# Altium footprint library ICs-V.PcbLib: 7 footprints
Each footprint in its own frame and in the unit in brackets; x right, y up, seen from the top. Pads: shape width x height; smd on the part's side, far side on the other; paste and mask are expansions set on the pad; w line width, h text height; cw(c..) or ccw(c..) is an arc to the next point about the centre after c.
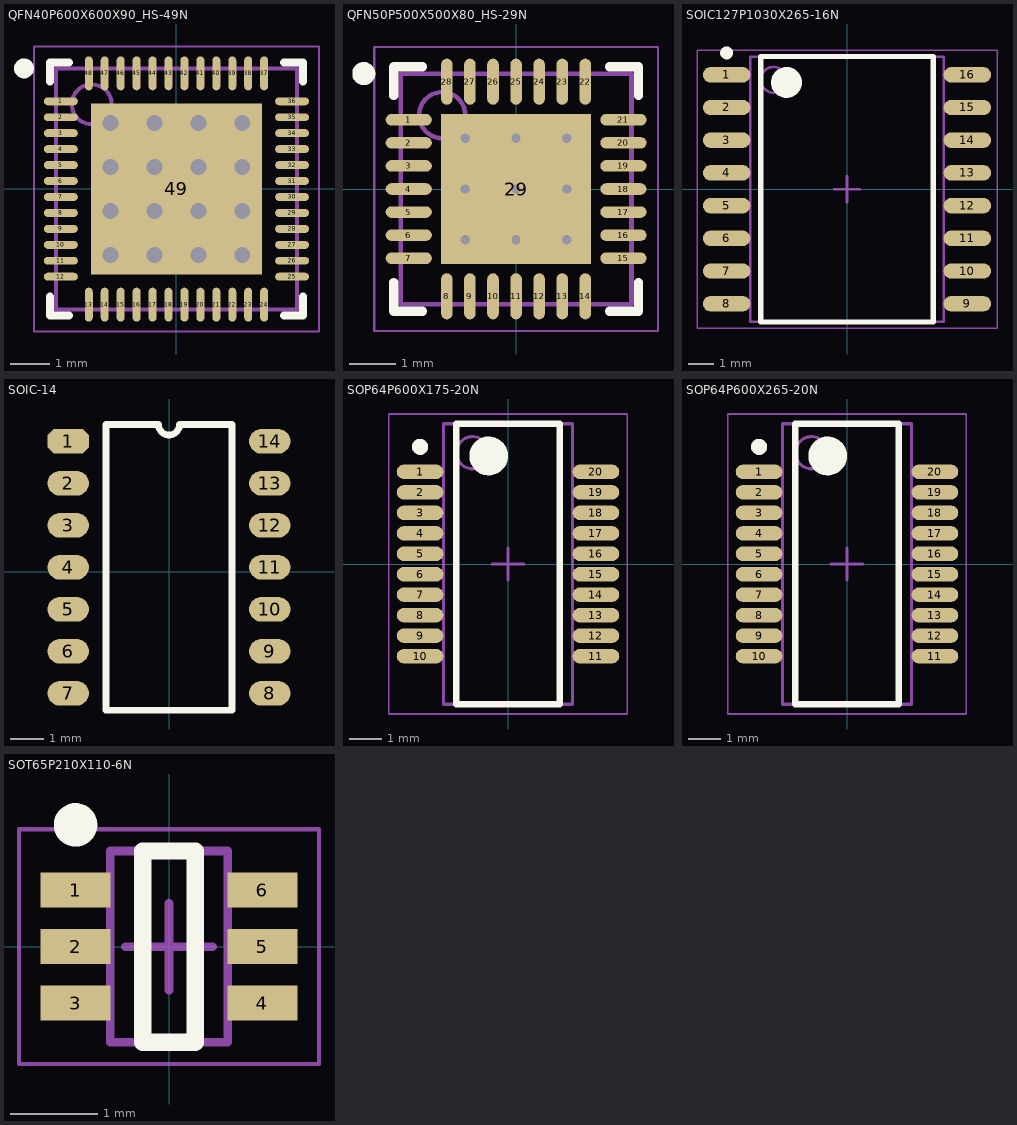
[diagram p0: the footprints below, top view; thin cyan lines are the x and y axes]

## QFN40P600X600X90_HS-49N [mm] "QFN, 48-Leads, Body 6.00x6.00mm, Pitch 0.40mm, Thermal Pad 4.30x4.30mm, IPC Medium Density"
height 0.9
pads (49):
  oval 0.85x0.2 smd: 1(-2.9,2.2) 2(-2.9,1.8) 3(-2.9,1.4) 4(-2.9,1) 5(-2.9,0.6) 6(-2.9,0.2) 7(-2.9,-0.2) 8(-2.9,-0.6) 9(-2.9,-1) 10(-2.9,-1.4) 11(-2.9,-1.8) 12(-2.9,-2.2) 25(2.9,-2.2) 26(2.9,-1.8) 27(2.9,-1.4) 28(2.9,-1) 29(2.9,-0.6) 30(2.9,-0.2) 31(2.9,0.2) 32(2.9,0.6) 33(2.9,1) 34(2.9,1.4) 35(2.9,1.8) 36(2.9,2.2)
  oval 0.2x0.85 smd: 13(-2.2,-2.9) 14(-1.8,-2.9) 15(-1.4,-2.9) 16(-1,-2.9) 17(-0.6,-2.9) 18(-0.2,-2.9) 19(0.2,-2.9) 20(0.6,-2.9) 21(1,-2.9) 22(1.4,-2.9) 23(1.8,-2.9) 24(2.2,-2.9) 37(2.2,2.9) 38(1.8,2.9) 39(1.4,2.9) 40(1,2.9) 41(0.6,2.9) 42(0.2,2.9) 43(-0.2,2.9) 44(-0.6,2.9) 45(-1,2.9) 46(-1.4,2.9) 47(-1.8,2.9) 48(-2.2,2.9)
  rect 4.3x4.3 smd: 49(0,0)
via -1.65,0.55 diameter 0.7 hole 0.4
via -1.65,1.65 diameter 0.7 hole 0.4
via -0.55,1.65 diameter 0.7 hole 0.4
via 0.55,1.65 diameter 0.7 hole 0.4
via 1.65,1.65 diameter 0.7 hole 0.4
via -0.55,0.55 diameter 0.7 hole 0.4
via 0.55,0.55 diameter 0.7 hole 0.4
via 1.65,0.55 diameter 0.7 hole 0.4
via -1.65,-0.55 diameter 0.7 hole 0.4
via -0.55,-0.55 diameter 0.7 hole 0.4
via 0.55,-0.55 diameter 0.7 hole 0.4
via 1.65,-0.55 diameter 0.7 hole 0.4
via -1.65,-1.65 diameter 0.7 hole 0.4
via -0.55,-1.65 diameter 0.7 hole 0.4
via 0.55,-1.65 diameter 0.7 hole 0.4
via 1.65,-1.65 diameter 0.7 hole 0.4
Top Overlay:
  circle w0.25: c-3.825,3.025 r0.125
  lines w0.2: -3.175,-2.7 -3.175,-3.175 -2.7,-3.175 ; -3.175,2.7 -3.175,3.175 -2.7,3.175 ; 2.7,-3.175 3.175,-3.175 3.175,-2.7 ; 2.7,3.175 3.175,3.175 3.175,2.7
Mechanical 13:
  circle w0.1: c-2.125,2.125 r0.5
  lines w0.1: -3.025,-3.025 -3.025,3.025 3.025,3.025 3.025,-3.025 -3.025,-3.025
Mechanical 15:
  lines w0.05: -3.575,-3.575 -3.575,3.575 3.575,3.575 3.575,-3.575 -3.575,-3.575
  lines w0.1: -0.5,0 0.5,0 ; 0,-0.5 0,0.5
3D body "QFN40P600X600X90_HS-49N.step": height 0.9, standoff 0, extent -3.026,-3.026 3.026,3.026

## QFN50P500X500X80_HS-29N [mm] "QFN, 28-Leads, Body 5.00x5.00mm, Pitch 0.50mm, Thermal Pad 3.25x3.25mm, IPC Medium Density"
height 0.8
pads (29):
  oval 1x0.25 smd: 1(-2.325,1.5) 2(-2.325,1) 3(-2.325,0.5) 4(-2.325,0) 5(-2.325,-0.5) 6(-2.325,-1) 7(-2.325,-1.5) 15(2.325,-1.5) 16(2.325,-1) 17(2.325,-0.5) 18(2.325,0) 19(2.325,0.5) 20(2.325,1) 21(2.325,1.5)
  oval 0.25x1 smd: 8(-1.5,-2.325) 9(-1,-2.325) 10(-0.5,-2.325) 11(0,-2.325) 12(0.5,-2.325) 13(1,-2.325) 14(1.5,-2.325) 22(1.5,2.325) 23(1,2.325) 24(0.5,2.325) 25(0,2.325) 26(-0.5,2.325) 27(-1,2.325) 28(-1.5,2.325)
  rect 3.25x3.25 smd: 29(0,0)
via 1.1,-1.1 diameter 0.5 hole 0.2
via 0,-1.1 diameter 0.5 hole 0.2
via -1.1,-1.1 diameter 0.5 hole 0.2
via 1.1,0 diameter 0.5 hole 0.2
via 0,0 diameter 0.5 hole 0.2
via -1.1,0 diameter 0.5 hole 0.2
via 1.1,1.1 diameter 0.5 hole 0.2
via 0,1.1 diameter 0.5 hole 0.2
via -1.1,1.1 diameter 0.5 hole 0.2
Top Overlay:
  circle w0.25: c-3.3,2.5 r0.125
  lines w0.2: -2.65,-2.025 -2.65,-2.65 -2.025,-2.65 ; -2.65,2.025 -2.65,2.65 -2.025,2.65 ; 2.025,-2.65 2.65,-2.65 2.65,-2.025 ; 2.025,2.65 2.65,2.65 2.65,2.025
Mechanical 13:
  circle w0.1: c-1.6,1.6 r0.5
  lines w0.1: -2.5,-2.5 2.5,-2.5 2.5,2.5 -2.5,2.5 -2.5,-2.5
Mechanical 15:
  lines w0.05: -3.075,-3.075 3.075,-3.075 3.075,3.075 -3.075,3.075 -3.075,-3.075
  lines w0.1: -0.5,0 0.5,0 ; 0,-0.5 0,0.5
3D body "QFN50P500X500X80_HS-29N.step": height 0.8, standoff 0, extent -2.501,-2.501 2.501,2.501

## SOIC127P1030X265-16N [mm] "SOIC, 16-Leads, Body 10.30x7.50mm, Pitch 1.27mm, IPC Medium Density"
height 2.65
pads (16):
  oval 1.85x0.6 smd: 1(-4.675,4.445) 2(-4.675,3.175) 3(-4.675,1.905) 4(-4.675,0.635) 5(-4.675,-0.635) 6(-4.675,-1.905) 7(-4.675,-3.175) 8(-4.675,-4.445) 9(4.675,-4.445) 10(4.675,-3.175) 11(4.675,-1.905) 12(4.675,-0.635) 13(4.675,0.635) 14(4.675,1.905) 15(4.675,3.175) 16(4.675,4.445)
Top Overlay:
  circle w0.25: c-4.675,5.295 r0.125
  circle w0.6: c-2.35,4.15 r0.3
  lines w0.2: -3.35,-5.15 -3.35,5.15 3.35,5.15 3.35,-5.15 -3.35,-5.15
Mechanical 13:
  circle w0.1: c-2.85,4.25 r0.5
  lines w0.1: -3.75,-5.15 -3.75,5.15 3.75,5.15 3.75,-5.15 -3.75,-5.15
Mechanical 15:
  lines w0.05: -5.825,-5.4 -5.825,5.4 5.825,5.4 5.825,-5.4 -5.825,-5.4
  lines w0.1: -0.5,0 0.5,0 ; 0,-0.5 0,0.5
3D body "SOIC127P1030X265-16N.step": height 2.65, standoff 0, extent -5.15,-5.15 5.15,5.15

## SOIC-14 [mm]
pads (14):
  oct 1.25x0.75 smd: 1(-3.048,3.937)
  oval 1.25x0.75 smd: 2(-3.048,2.667) 3(-3.048,1.397) 4(-3.048,0.127) 5(-3.048,-1.143) 6(-3.048,-2.413) 7(-3.048,-3.683) 8(3.048,-3.683) 9(3.048,-2.413) 10(3.048,-1.143) 11(3.048,0.127) 12(3.048,1.397) 13(3.048,2.667) 14(3.048,3.937)
Top Overlay:
  lines w0.203: -1.905,-4.191 -1.905,4.445 -0.318,4.445 ccw(c0,4.445) 0.318,4.445 1.905,4.445 1.905,-4.191 -1.905,-4.191
3D body: height 1.52, standoff 0.25, extent -1.905,-4.191 1.905,4.445
3D body: height 1.02, standoff 0.76, extent -2.54,3.683 -1.905,4.191
3D body: height 1.02, standoff 0, extent -2.667,3.683 -2.54,4.191
3D body: height 0.25, standoff 0, extent -3.175,3.683 -2.667,4.191
3D body: height 0.25, standoff 0, extent -3.175,2.413 -2.667,2.921
3D body: height 1.02, standoff 0, extent -2.667,2.413 -2.54,2.921
3D body: height 1.02, standoff 0.76, extent -2.54,2.413 -1.905,2.921
3D body: height 0.25, standoff 0, extent -3.175,1.143 -2.667,1.651
3D body: height 1.02, standoff 0, extent -2.667,1.143 -2.54,1.651
3D body: height 1.02, standoff 0.76, extent -2.54,1.143 -1.905,1.651
3D body: height 0.25, standoff 0, extent -3.175,-0.127 -2.667,0.381
3D body: height 1.02, standoff 0, extent -2.667,-0.127 -2.54,0.381
3D body: height 1.02, standoff 0.76, extent -2.54,-0.127 -1.905,0.381
3D body: height 0.25, standoff 0, extent -3.175,-1.397 -2.667,-0.889
3D body: height 1.02, standoff 0, extent -2.667,-1.397 -2.54,-0.889
3D body: height 1.02, standoff 0.76, extent -2.54,-1.397 -1.905,-0.889
3D body: height 0.25, standoff 0, extent -3.175,-2.667 -2.667,-2.159
3D body: height 1.02, standoff 0, extent -2.667,-2.667 -2.54,-2.159
3D body: height 1.02, standoff 0.76, extent -2.54,-2.667 -1.905,-2.159
3D body: height 0.25, standoff 0, extent -3.175,-3.937 -2.667,-3.429
3D body: height 1.02, standoff 0, extent -2.667,-3.937 -2.54,-3.429
3D body: height 1.02, standoff 0.76, extent -2.54,-3.937 -1.905,-3.429
3D body: height 1.02, standoff 0.76, extent 1.905,-3.937 2.54,-3.429
3D body: height 1.02, standoff 0, extent 2.54,-3.937 2.667,-3.429
3D body: height 0.25, standoff 0, extent 2.667,-3.937 3.175,-3.429
3D body: height 1.02, standoff 0.76, extent 1.905,-2.667 2.54,-2.159
3D body: height 1.02, standoff 0, extent 2.54,-2.667 2.667,-2.159
3D body: height 0.25, standoff 0, extent 2.667,-2.667 3.175,-2.159
3D body: height 1.02, standoff 0.76, extent 1.905,-1.397 2.54,-0.889
3D body: height 1.02, standoff 0, extent 2.54,-1.397 2.667,-0.889
3D body: height 0.25, standoff 0, extent 2.667,-1.397 3.175,-0.889
3D body: height 1.02, standoff 0.76, extent 1.905,-0.127 2.54,0.381
3D body: height 1.02, standoff 0, extent 2.54,-0.127 2.667,0.381
3D body: height 0.25, standoff 0, extent 2.667,-0.127 3.175,0.381
3D body: height 1.02, standoff 0.76, extent 1.905,1.143 2.54,1.651
3D body: height 1.02, standoff 0, extent 2.54,1.143 2.667,1.651
3D body: height 0.25, standoff 0, extent 2.667,1.143 3.175,1.651
3D body: height 1.02, standoff 0.76, extent 1.905,2.413 2.54,2.921
3D body: height 1.02, standoff 0, extent 2.54,2.413 2.667,2.921
3D body: height 0.25, standoff 0, extent 2.667,2.413 3.175,2.921
3D body: height 0.25, standoff 0, extent 2.667,3.683 3.175,4.191
3D body: height 1.02, standoff 0, extent 2.54,3.683 2.667,4.191
3D body: height 1.02, standoff 0.76, extent 1.905,3.683 2.54,4.191

## SOP64P600X175-20N [mm] "SOP, 20-Leads, Body 8.65x3.90mm, Pitch 0.64mm, IPC Medium Density"
height 1.76
pads (20):
  oval 1.45x0.45 smd: 1(-2.725,2.857) 2(-2.725,2.222) 3(-2.725,1.587) 4(-2.725,0.953) 5(-2.725,0.318) 6(-2.725,-0.318) 7(-2.725,-0.953) 8(-2.725,-1.587) 9(-2.725,-2.222) 10(-2.725,-2.857) 11(2.725,-2.857) 12(2.725,-2.222) 13(2.725,-1.587) 14(2.725,-0.953) 15(2.725,-0.318) 16(2.725,0.318) 17(2.725,0.953) 18(2.725,1.587) 19(2.725,2.222) 20(2.725,2.857)
Top Overlay:
  circle w0.6: c-0.6,3.35 r0.3
  circle w0.25: c-2.725,3.632 r0.125
  lines w0.2: -1.6,-4.35 1.6,-4.35 1.6,4.35 -1.6,4.35 -1.6,-4.35
Mechanical 13:
  circle w0.1: c-1.1,3.45 r0.5
  lines w0.1: -2,-4.35 2,-4.35 2,4.35 -2,4.35 -2,-4.35
Mechanical 15:
  lines w0.05: -3.7,-4.65 3.7,-4.65 3.7,4.65 -3.7,4.65 -3.7,-4.65
  lines w0.1: -0.5,0 0.5,0 ; 0,-0.5 0,0.5
3D body "SOP64P600X175-20N.step": height 1.75, standoff 0, extent -2.997,-4.35 2.997,4.35

## SOP64P600X265-20N [mm] "(second) SOP, 20-Leads, Body 8.65x3.90mm, Pitch 0.64mm, IPC Medium Density"
height 2.65
pads (20):
  oval 1.45x0.45 smd: 1(-2.725,2.857) 2(-2.725,2.222) 3(-2.725,1.587) 4(-2.725,0.953) 5(-2.725,0.318) 6(-2.725,-0.318) 7(-2.725,-0.953) 8(-2.725,-1.587) 9(-2.725,-2.222) 10(-2.725,-2.857) 11(2.725,-2.857) 12(2.725,-2.222) 13(2.725,-1.587) 14(2.725,-0.953) 15(2.725,-0.318) 16(2.725,0.318) 17(2.725,0.953) 18(2.725,1.587) 19(2.725,2.222) 20(2.725,2.857)
Top Overlay:
  circle w0.6: c-0.6,3.35 r0.3
  circle w0.25: c-2.725,3.632 r0.125
  lines w0.2: -1.6,-4.35 1.6,-4.35 1.6,4.35 -1.6,4.35 -1.6,-4.35
Mechanical 13:
  circle w0.1: c-1.1,3.45 r0.5
  lines w0.1: -2,-4.35 2,-4.35 2,4.35 -2,4.35 -2,-4.35
Mechanical 15:
  lines w0.05: -3.7,-4.65 3.7,-4.65 3.7,4.65 -3.7,4.65 -3.7,-4.65
  lines w0.1: -0.5,0 0.5,0 ; 0,-0.5 0,0.5
3D body "SOP64P600X265-20N.step": height 2.65, standoff 0, extent -2.997,-4.35 2.997,4.35

## SOT65P210X110-6N [mm] "SOT23, 6-Leads, Body 2.00x2.10mm, Pitch 0.65mm, IPC Medium Density"
height 1.1
pads (6):
  rect 0.8x0.4 smd: 1(-1.075,0.65) 2(-1.075,0) 3(-1.075,-0.65) 4(1.075,-0.65) 5(1.075,0) 6(1.075,0.65)
Top Overlay:
  circle w0.25: c-1.075,1.4 r0.125
  lines w0.2: -0.3,-1.1 -0.3,1.1 0.3,1.1 0.3,-1.1 -0.3,-1.1
Mechanical 13:
  lines w0.1: -0.675,-1.1 0.675,-1.1 0.675,1.1 -0.675,1.1 -0.675,-1.1
Mechanical 15:
  lines w0.05: -1.725,-1.35 1.725,-1.35 1.725,1.35 -1.725,1.35 -1.725,-1.35
  lines w0.1: -0.5,0 0.5,0 ; 0,-0.5 0,0.5
3D body "SOT65P210X110-6N.step": height 1.1, standoff 0, extent -1.1,-1.1 1.1,1.1